# EAGLE library part UART-RS485 (library buksir)
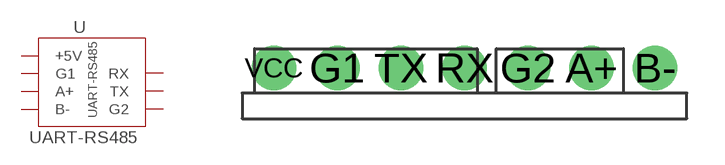
[diagram p3: symbol with the pads of UART-RS485; footprint UART-RS485]

Designator prefix U

## UART-RS485  [UART-RS485]
A+  A+
B-  B-
G1  G1
G2  G2
RX  RX
TX  TX
VCC  +5V

## Footprint UART-RS485 (pad centres in mm)
drill 0.9 pad 1.778: A+ 13.97,2.032; B- 16.51,2.032; G1 3.81,2.032; G2 11.43,2.032; RX 8.89,2.032; TX 6.35,2.032; VCC 1.27,2.032